# Altium integrated library SparkFun-Resistors.IntLib: 159 symbols (part 2 of 2)
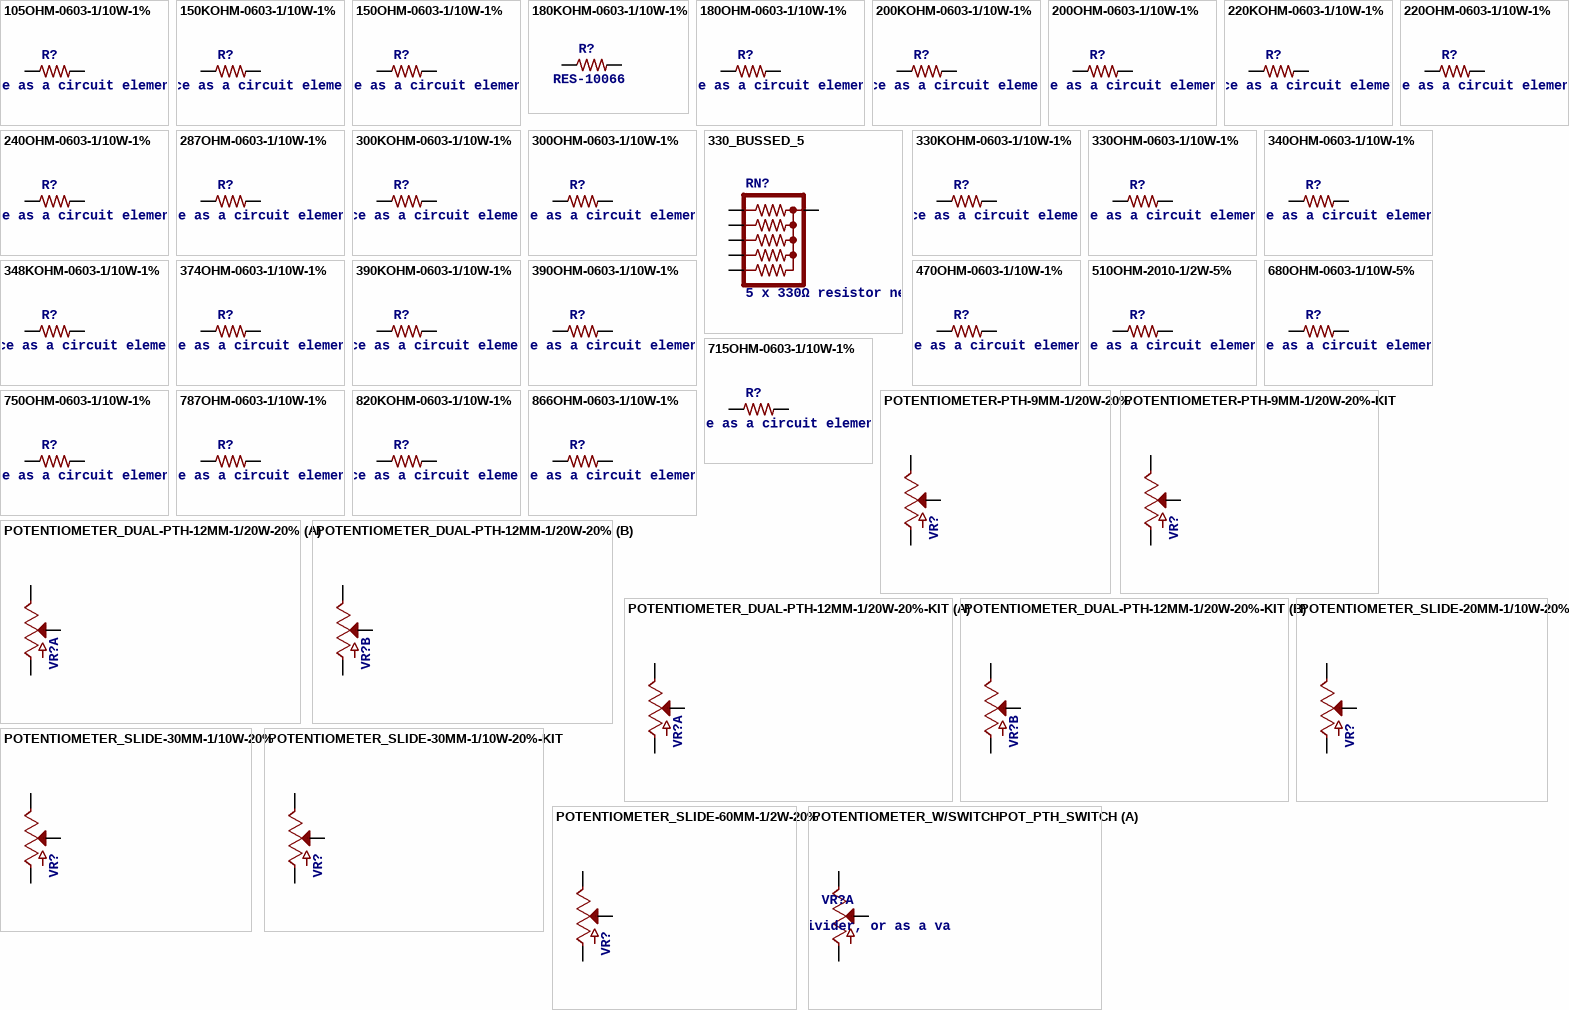
[diagram p5: symbols 105OHM-0603-1/10W-1% to POTENTIOMETER_W/SWITCHPOT_PTH_SWITCH]

## 750OHM-0603-1/10W-1%
designator R?, comment 750Ω resistor    A resistor is a passive two-terminal electrical component that implements electrical resistance as a circuit element. Resistors act to reduce current flow, and, at the same time, act to lower voltage levels within circuits. - Wikipedia
PROD_ID: RES-07824
footprint 0603
pins: 1, 2

## 787OHM-0603-1/10W-1%
designator R?, comment 787Ω resistor    A resistor is a passive two-terminal electrical component that implements electrical resistance as a circuit element. Resistors act to reduce current flow, and, at the same time, act to lower voltage levels within circuits. - Wikipedia
PROD_ID: RES-11228
footprint 0603
pins: 1, 2

## 820KOHM-0603-1/10W-1%
designator R?, comment 820kΩ resistor    A resistor is a passive two-terminal electrical component that implements electrical resistance as a circuit element. Resistors act to reduce current flow, and, at the same time, act to lower voltage levels within circuits. - Wikipedia
PROD_ID: RES-13247
footprint 0603
pins: 1, 2

## 866OHM-0603-1/10W-1%
designator R?, comment 866Ω resistor    A resistor is a passive two-terminal electrical component that implements electrical resistance as a circuit element. Resistors act to reduce current flow, and, at the same time, act to lower voltage levels within circuits. - Wikipedia
PROD_ID: RES-09991
footprint 0603
pins: 1, 2

## POTENTIOMETER-PTH-9MM-1/20W-20%
designator VR?, comment Potentiometer (Pot)    Three-terminal potentiometers, with an adjustable wiper and two adjustable resistors. A pot can be used to create a configurable voltage divider, or as a variable resistor. Variants  ALPS_POT and ALPS_POT_KIT - PTH, breadboard compatible, 9mm square pots  Rotary Potentiometer - Linear (10k ohm) (COM-09288)  The KIT variant exposes copper on only one side of the PTH pad, so the part can only be assembled on one side of the PCB. Useful for beginner soldering kits.
PROD_ID: RES-09177; SF_SKU: COM-09288
footprint POT-PTH-ALPS
pins: P$1 E, P$2 S, P$3 A

## POTENTIOMETER-PTH-9MM-1/20W-20%-KIT
designator VR?, comment Potentiometer (Pot)    Three-terminal potentiometers, with an adjustable wiper and two adjustable resistors. A pot can be used to create a configurable voltage divider, or as a variable resistor. Variants  ALPS_POT and ALPS_POT_KIT - PTH, breadboard compatible, 9mm square pots  Rotary Potentiometer - Linear (10k ohm) (COM-09288)  The KIT variant exposes copper on only one side of the PTH pad, so the part can only be assembled on one side of the PCB. Useful for beginner soldering kits.
PROD_ID: RES-09177; SF_SKU: COM-09288
footprint POT-PTH-ALPS-KIT
pins: P$1 E, P$2 S, P$3 A

## POTENTIOMETER_DUAL-PTH-12MM-1/20W-20%
designator VR?, comment Potentiometer (Pot) Dual-Gang    Three-terminal potentiometers, with an adjustable wiper and two adjustable resistors. A pot can be used to create a configurable voltage divider, or as a variable resistor.   This is a dua-gang pot - it includes two separate circuits, both controlled by one wiper. Variants  PTH-12MM and PTH-12MM-KIT - 12mm Square, PTH Vertical Pots  Used on the SparkFun SparkPunk Sound Kit (filter control)  The KIT variant exposes copper on only one side of the PTH pad, so the part can only be assembled on one side of the PCB. Useful for beginner soldering kits.
PROD_ID: RES-11897
footprint POT-DUAL-PTH-PANASONIC-VERT
part A pins: A1 E, A2 S, A3 A
part B pins: B1 E, B2 S, B3 A

## POTENTIOMETER_DUAL-PTH-12MM-1/20W-20%-KIT
designator VR?, comment Potentiometer (Pot) Dual-Gang    Three-terminal potentiometers, with an adjustable wiper and two adjustable resistors. A pot can be used to create a configurable voltage divider, or as a variable resistor.   This is a dua-gang pot - it includes two separate circuits, both controlled by one wiper. Variants  PTH-12MM and PTH-12MM-KIT - 12mm Square, PTH Vertical Pots  Used on the SparkFun SparkPunk Sound Kit (filter control)  The KIT variant exposes copper on only one side of the PTH pad, so the part can only be assembled on one side of the PCB. Useful for beginner soldering kits.
PROD_ID: RES-11897
footprint POT-DUAL-PTH-PANASONIC-VERT-KIT
part A pins: A1 E, A2 S, A3 A
part B pins: B1 E, B2 S, B3 A

## POTENTIOMETER_SLIDE-20MM-1/10W-20%
designator VR?, comment Slide Potentiometer    Slide-type potentiometers - pots that are adjusted by sliding a wiper up or down. Commonly found en-masse on sound boards. Variants  60MM  - Slide Pot - X-Large (10k Linear Taper) (COM-09119)  10k linear slide pot with 60mm travel.  Datasheet     30MM, 30MM-KIT - Slide Pot - Medium (10k Linear Taper) (COM-11621)  10k linear slide pot with 30mm travel.  Datasheet (C3031N-1A2-B10K-GP)  "KIT" variant, intended for soldering kits, has tStop removed from pads so the component can only be stuffed on one side of the board.     20MM - Slide Pot - Small (10k Linear Taper) (COM-11620)  10k linear slide pot with 20mm travel.  Datasheet (C2031N-1A2-B10K-GP)
PROD_ID: RES-11924; SF_SKU: COM-11620
footprint SLIDER-SMALL
pins: BOTTOM A, TOP E, WIPER S

## POTENTIOMETER_SLIDE-30MM-1/10W-20%
designator VR?, comment Slide Potentiometer    Slide-type potentiometers - pots that are adjusted by sliding a wiper up or down. Commonly found en-masse on sound boards. Variants  60MM  - Slide Pot - X-Large (10k Linear Taper) (COM-09119)  10k linear slide pot with 60mm travel.  Datasheet     30MM, 30MM-KIT - Slide Pot - Medium (10k Linear Taper) (COM-11621)  10k linear slide pot with 30mm travel.  Datasheet (C3031N-1A2-B10K-GP)  "KIT" variant, intended for soldering kits, has tStop removed from pads so the component can only be stuffed on one side of the board.     20MM - Slide Pot - Small (10k Linear Taper) (COM-11620)  10k linear slide pot with 20mm travel.  Datasheet (C2031N-1A2-B10K-GP)
PROD_ID: RES-11931; SF_SKU: COM-11621
footprint SLIDER-MEDIUM
pins: BOTTOM A, TOP E, WIPER S

## POTENTIOMETER_SLIDE-30MM-1/10W-20%-KIT
designator VR?, comment Slide Potentiometer    Slide-type potentiometers - pots that are adjusted by sliding a wiper up or down. Commonly found en-masse on sound boards. Variants  60MM  - Slide Pot - X-Large (10k Linear Taper) (COM-09119)  10k linear slide pot with 60mm travel.  Datasheet     30MM, 30MM-KIT - Slide Pot - Medium (10k Linear Taper) (COM-11621)  10k linear slide pot with 30mm travel.  Datasheet (C3031N-1A2-B10K-GP)  "KIT" variant, intended for soldering kits, has tStop removed from pads so the component can only be stuffed on one side of the board.     20MM - Slide Pot - Small (10k Linear Taper) (COM-11620)  10k linear slide pot with 20mm travel.  Datasheet (C2031N-1A2-B10K-GP)
PROD_ID: RES-11931; SF_SKU: COM-11621
footprint SLIDER-MEDIUM-KIT
pins: BOTTOM A, TOP E, WIPER S

## POTENTIOMETER_SLIDE-60MM-1/2W-20%
designator VR?, comment Slide Potentiometer    Slide-type potentiometers - pots that are adjusted by sliding a wiper up or down. Commonly found en-masse on sound boards. Variants  60MM  - Slide Pot - X-Large (10k Linear Taper) (COM-09119)  10k linear slide pot with 60mm travel.  Datasheet     30MM, 30MM-KIT - Slide Pot - Medium (10k Linear Taper) (COM-11621)  10k linear slide pot with 30mm travel.  Datasheet (C3031N-1A2-B10K-GP)  "KIT" variant, intended for soldering kits, has tStop removed from pads so the component can only be stuffed on one side of the board.     20MM - Slide Pot - Small (10k Linear Taper) (COM-11620)  10k linear slide pot with 20mm travel.  Datasheet (C2031N-1A2-B10K-GP)
PROD_ID: RES-09484; SF_SKU: COM-09119
footprint SLIDER-XLARGE
pins: 1 E, 2A S, 3 A

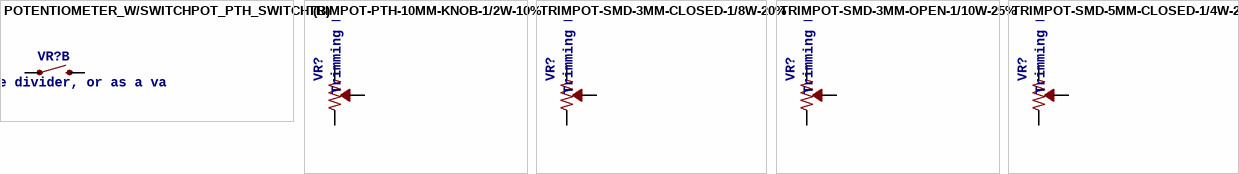
[diagram p4: symbols POTENTIOMETER_W/SWITCHPOT_PTH_SWITCH to TRIMPOT-SMD-5MM-CLOSED-1/4W-20%]

## POTENTIOMETER_W/SWITCHPOT_PTH_SWITCH
designator VR?, comment Potentiometer (Pot) with Switch    Three-terminal potentiometers, with an adjustable wiper and two adjustable resistors. A pot can be used to create a configurable voltage divider, or as a variable resistor.   This potentiometer includes a "select" switch - actuated by pushing down on the wiper. Variants  POT-SWITCH-PTH - 16mm PTH Pot w/ Switch  Used on SparkFun FabFM Radio Kit
PROD_ID: RES-11300
footprint POT-SWITCH-PTH
part A pins: 1 A, 2 S, 3 E
part B pins: S1 1, S2 2

## TRIMPOT-PTH-10MM-KNOB-1/2W-10%
designator VR?, comment Trimming Potentiometer (Trimpot)    Three-terminal potentiometers, with an adjustable wiper and two adjustable resistors. A pot can be used to create a configurable voltage divider, or as a variable resistor.   "Trimpots" are a subset of potentiometers, usually intended for "set-and-forget" applications. They're often more delicate than standard potentiometers - rated for fewer turns. Variants  PTH-KNOB - PTH Trimpot w/ finger-adjustable knob  Trimpot 10K with Knob (COM-09806)  Datasheet    SMD-3MM-CLOSED-FRAME - SMD 3mm Square Closed-Frame Trimpot  Used on e.g. EasyDriver - Stepper Motor Driver  Datasheet (22AR10KTR)     SMD-5MM - SMD 5mm Square Closed-Frame Trimpot  Used on e.g. IOIO-OTG - V2.2  Datasheet (TS53YL502MR10)     SMD-3MM-1/10W-25% - 3mm Square Open-Frame Trimpot  Used on e.g. SparkFun Shapeoko  Datasheet (TC33X-2-103E)
PROD_ID: RES-09730; SF_SKU: COM-09806
footprint TRIMPOT-PTH-3386U
pins: 1 CCW, 2 WIPER, 3 CW

## TRIMPOT-SMD-3MM-CLOSED-1/8W-20%
designator VR?, comment Trimming Potentiometer (Trimpot)    Three-terminal potentiometers, with an adjustable wiper and two adjustable resistors. A pot can be used to create a configurable voltage divider, or as a variable resistor.   "Trimpots" are a subset of potentiometers, usually intended for "set-and-forget" applications. They're often more delicate than standard potentiometers - rated for fewer turns. Variants  PTH-KNOB - PTH Trimpot w/ finger-adjustable knob  Trimpot 10K with Knob (COM-09806)  Datasheet    SMD-3MM-CLOSED-FRAME - SMD 3mm Square Closed-Frame Trimpot  Used on e.g. EasyDriver - Stepper Motor Driver  Datasheet (22AR10KTR)     SMD-5MM - SMD 5mm Square Closed-Frame Trimpot  Used on e.g. IOIO-OTG - V2.2  Datasheet (TS53YL502MR10)     SMD-3MM-1/10W-25% - 3mm Square Open-Frame Trimpot  Used on e.g. SparkFun Shapeoko  Datasheet (TC33X-2-103E)
PROD_ID: RES-09285
footprint TRIMPOT-SMD-3MM-CLOSED
pins: 1 CCW, 2 WIPER, 3 CW

## TRIMPOT-SMD-3MM-OPEN-1/10W-25%
designator VR?, comment Trimming Potentiometer (Trimpot)    Three-terminal potentiometers, with an adjustable wiper and two adjustable resistors. A pot can be used to create a configurable voltage divider, or as a variable resistor.   "Trimpots" are a subset of potentiometers, usually intended for "set-and-forget" applications. They're often more delicate than standard potentiometers - rated for fewer turns. Variants  PTH-KNOB - PTH Trimpot w/ finger-adjustable knob  Trimpot 10K with Knob (COM-09806)  Datasheet    SMD-3MM-CLOSED-FRAME - SMD 3mm Square Closed-Frame Trimpot  Used on e.g. EasyDriver - Stepper Motor Driver  Datasheet (22AR10KTR)     SMD-5MM - SMD 5mm Square Closed-Frame Trimpot  Used on e.g. IOIO-OTG - V2.2  Datasheet (TS53YL502MR10)     SMD-3MM-1/10W-25% - 3mm Square Open-Frame Trimpot  Used on e.g. SparkFun Shapeoko  Datasheet (TC33X-2-103E)
PROD_ID: RES-12428
footprint TRIMPOT-SMD-TC33X
pins: 1 CW, 2 WIPER, 3 CCW

## TRIMPOT-SMD-5MM-CLOSED-1/4W-20%
designator VR?, comment Trimming Potentiometer (Trimpot)    Three-terminal potentiometers, with an adjustable wiper and two adjustable resistors. A pot can be used to create a configurable voltage divider, or as a variable resistor.   "Trimpots" are a subset of potentiometers, usually intended for "set-and-forget" applications. They're often more delicate than standard potentiometers - rated for fewer turns. Variants  PTH-KNOB - PTH Trimpot w/ finger-adjustable knob  Trimpot 10K with Knob (COM-09806)  Datasheet    SMD-3MM-CLOSED-FRAME - SMD 3mm Square Closed-Frame Trimpot  Used on e.g. EasyDriver - Stepper Motor Driver  Datasheet (22AR10KTR)     SMD-5MM - SMD 5mm Square Closed-Frame Trimpot  Used on e.g. IOIO-OTG - V2.2  Datasheet (TS53YL502MR10)     SMD-3MM-1/10W-25% - 3mm Square Open-Frame Trimpot  Used on e.g. SparkFun Shapeoko  Datasheet (TC33X-2-103E)
PROD_ID: RES-11156
footprint TRIMPOT-SMD-5MM
pins: A CCW, B WIPER, C CW